# Altium footprint library electronpowered.PcbLib: 83 footprints (part 5 of 6)
Each footprint in its own frame and in the unit in brackets; x right, y up, seen from the top. Pads: shape width x height; smd on the part's side, far side on the other; paste and mask are expansions set on the pad; w line width, h text height; cw(c..) or ccw(c..) is an arc to the next point about the centre after c.
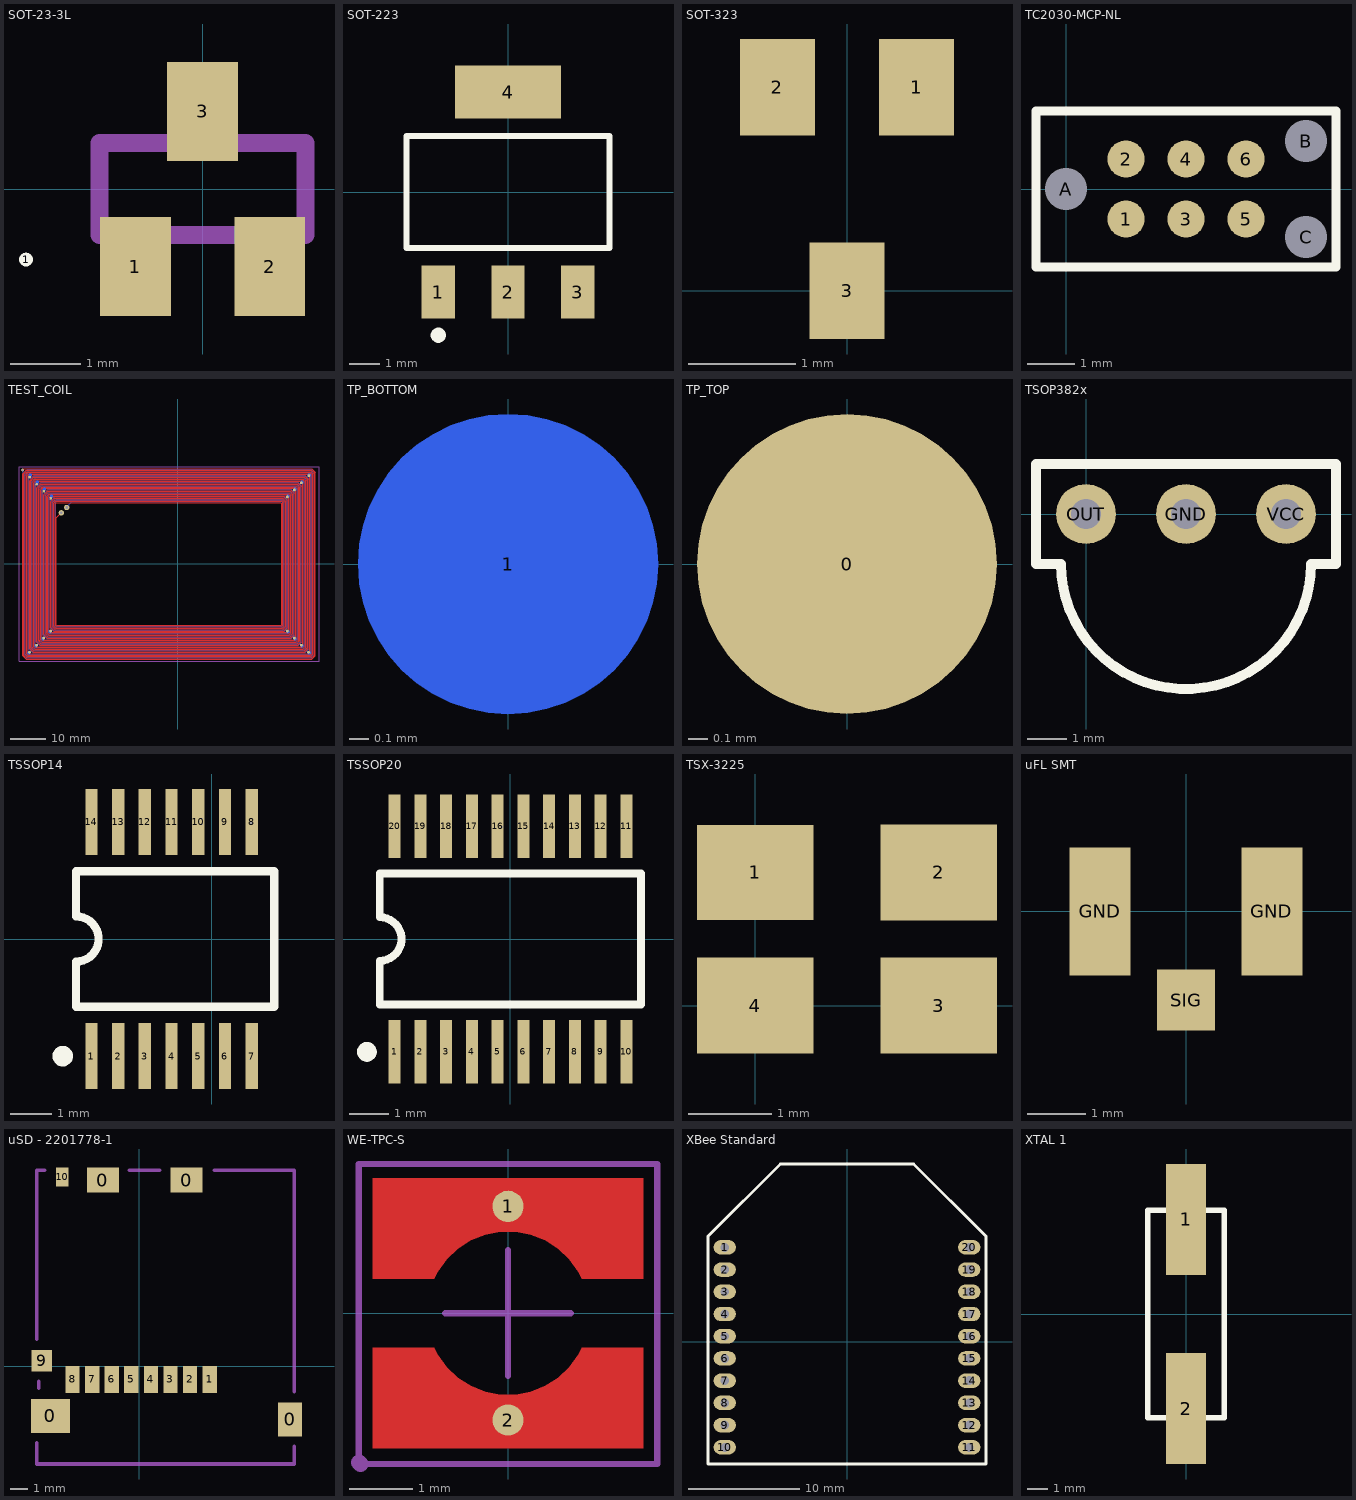
[diagram p4: the footprints below, top view; thin cyan lines are the x and y axes]

## SOT-23-3L [mm] "SOT-23-3Las used in BSS138"
height 1.3
pads (4):
  round 0.2 on Top Overlay: 1(-2.5,-1)
  rect 1x1.4 smd: 1(-0.95,-1.1) 2(0.95,-1.1) 3(0,1.1)
Top Comp Body:
  lines w0.254: -1.46,-0.65 1.46,-0.65 1.46,0.65 -1.46,0.65 -1.46,-0.65

## SOT-223 [mm] "SOT-223/SC-73; 4 Leads; Body 6.7 x 7.3 mm, inc. leads (LxW max)"
height 1.75
pads (4):
  rect 1.1x1.75 smd: 1(-2.3,-3.3) 2(0,-3.3) 3(2.3,-3.3)
  rect 3.5x1.75 smd: 4(0,3.3)
Top Overlay:
  circle w0.25: c-2.3,-4.725 r0.125
  lines w0.2: -3.35,-1.85 -3.35,1.85 3.35,1.85 3.35,-1.85 -3.35,-1.85

## SOT-323 [mm]
pads (3):
  rect 0.7x0.9 smd: 1(0.65,1.9) 2(-0.65,1.9) 3(0,0)

## TC2030-MCP-NL [mil]
pads (9):
  round 31 smd: 1(50,-25) 2(50,25) 3(100,-25) 4(100,25) 5(150,-25) 6(150,25)
  round 34 hole 35 unplated: A(0,0) B(200,40) C(200,-40)
Top Overlay:
  lines w7.87: -25,-65 -25,65 225,65 225,-65 -25,-65

## TEST_COIL [mm]
pads (34):
  round 0.8 smd far side: 0(-42.2,-25.2) 0(-41.8,25.2) 0(-40.2,-23.2) 0(-39.8,23.2) 0(-38.2,-21.2) 0(-37.8,21.2) 0(-36.2,-19.2) 0(-35.8,19.2) 0(31.2,-19.2) 0(31.2,19.2) 0(33.2,-21.2) 0(33.2,21.2) 0(35.2,-23.2) 0(35.2,23.2) 0(37.2,-25.2) 0(37.2,25.2)
  round 0.8 smd: 0(-42,-25) 0(-42,24.6) 0(-40,-23) 0(-40,22.6) 0(-38,-21) 0(-38,20.6) 0(-36,-19) 0(-36,18.6) 0(31,-19) 0(31,19) 0(33,-21) 0(33,21) 0(35,-23) 0(35,23) 0(37,-25) 0(37.1,25)
  round 1.524 hole 0.762: 1(-33,14.5) 2(-31.5,16)
via -44,26.6 diameter 0.8 hole 0.4
Top Layer:
  lines w0.2: -33,14.5 -34.4,13.1 -34.4,-17.2 -34.2,-17.4 29.2,-17.4 29.4,-17.2 29.4,-17 29.4,17.2 29.2,17.4 -34.4,17.4 -34.8,17 -34.8,-17.4 -34.4,-17.8 29.4,-17.8 29.8,-17.4 29.8,17.4 29.4,17.8 -34.6,17.8 -35.2,17.2 -35.2,-17.6 -34.6,-18.2 29.6,-18.2 30.2,-17.6 30.2,17.6 29.6,18.2 -34.8,18.2 -35.6,17.4 -35.6,-17.8 -34.8,-18.6 29.8,-18.6 30.6,-17.8 30.6,17.8 29.8,18.6 -35,18.6 -36,17.6 -36,-18 -35,-19 30,-19 31,-18 31,18 30,19 -36.2,19 -36.4,18.8 -36.4,-19.2 -36.2,-19.4 31.2,-19.4 31.4,-19.2 31.4,19.2 31.2,19.4 -36.4,19.4 -36.8,19 -36.8,-19.4 -36.4,-19.8 31.4,-19.8 31.8,-19.4 31.8,19.4 31.4,19.8 -36.6,19.8 -37.2,19.2 -37.2,-19.6 -36.6,-20.2 31.6,-20.2 32.2,-19.6 32.2,19.6 31.6,20.2 -36.8,20.2 -37.6,19.4 -37.6,-19.8 -36.8,-20.6 31.8,-20.6 32.6,-19.8 32.6,19.8 31.8,20.6 -37,20.6 -38,19.6 -38,-20 -37,-21 32,-21 33,-20 33,20 32,21 -38.2,21 -38.4,20.8 -38.4,-21.2 -38.2,-21.4 33.2,-21.4 33.4,-21.2 33.4,21.2 33.2,21.4 -38.4,21.4 -38.8,21 -38.8,-21.4 -38.4,-21.8 33.4,-21.8 33.8,-21.4 33.8,21.4 33.4,21.8 -38.6,21.8 -39.2,21.2 -39.2,-21.6 -38.6,-22.2 33.6,-22.2 34.2,-21.6 34.2,21.6 33.6,22.2 -38.8,22.2 -39.6,21.4 -39.6,-21.8 -38.8,-22.6 33.8,-22.6 34.6,-21.8 34.6,21.8 33.8,22.6 -39,22.6 -40,21.6 -40,-22 -39,-23 34,-23 35,-22 35,22 34,23 -40.2,23 -40.4,22.8 -40.4,-23.2 -40.2,-23.4 35.2,-23.4 35.4,-23.2 35.4,23.2 35.2,23.4 -40.4,23.4 -40.8,23 -40.8,-23.4 -40.4,-23.8 35.4,-23.8 35.8,-23.4 35.8,23.4 35.4,23.8 -40.6,23.8 -41.2,23.2 -41.2,-23.6 -40.6,-24.2 35.6,-24.2 36.2,-23.6 36.2,23.6 35.6,24.2 -40.8,24.2 -41.6,23.4 -41.6,-23.8 -40.8,-24.6 35.8,-24.6 36.6,-23.8 36.6,23.8 35.8,24.6 -41,24.6 -42,23.6 -42,-24 -41,-25 36,-25 37,-24 37,24 36,25 -42.2,25 -42.4,24.8 -42.4,-25.2 -42.2,-25.4 37.2,-25.4 37.4,-25.2 37.4,25.2 37.2,25.4 -42.4,25.4 -42.8,25 -42.8,-25.4 -42.4,-25.8 37.4,-25.8 37.8,-25.4 37.8,25.4 37.4,25.8 -42.6,25.8 -43.2,25.2 -43.2,-25.6 -42.6,-26.2 37.6,-26.2 38.2,-25.6 38.2,25.6 37.6,26.2 -42.8,26.2 -43,26 ; -44,26.6 -44,26.6 ; -44,26.6 -43.6,27 -43.2,27 38,27 39,26 39,-26 38,-27 -43,-27 -44,-26 -44,25.6 -43,26.6 37.8,26.6 38.6,25.8 38.6,-25.8 37.8,-26.6 -42.8,-26.6 -43.6,-25.8 -43.6,25.4 -43,26 ; -43,26 -43,26
Bottom Layer:
  lines w0.2: -44,26.6 -43.8,26.4 -43.8,-25.9 -42.9,-26.8 37.9,-26.8 38.8,-25.9 38.8,25.9 37.9,26.8 -42.5,26.8 -43.4,25.9 -43.4,-25.7 -42.7,-26.4 37.7,-26.4 38.4,-25.7 38.4,25.7 37.7,26.4 -42.3,26.4 -43,25.7 -43,-25.5 -42.5,-26 37.5,-26 38,-25.5 38,25.5 37.5,26 37.4,26 -42.1,26 -42.6,25.5 -42.6,-25.3 -42.3,-25.6 37.3,-25.6 37.6,-25.3 37.6,25.3 37.3,25.6 -41.9,25.6 -42.2,25.3 -42.2,-24.1 -41.1,-25.2 36.1,-25.2 37.2,-24.1 37.2,24.1 36.1,25.2 -40.7,25.2 -41.8,24.1 -41.8,-23.9 -40.9,-24.8 35.9,-24.8 36.8,-23.9 36.8,23.9 35.9,24.8 -40.6,24.8 -41.4,24 -41.4,-23.7 -40.7,-24.4 35.7,-24.4 36.4,-23.7 36.4,23.7 35.7,24.4 -40.3,24.4 -41,23.7 -41,-23.5 -40.5,-24 35.5,-24 36,-23.5 36,23.5 35.5,24 -40.1,24 -40.6,23.5 -40.6,-23.3 -40.3,-23.6 35.3,-23.6 35.6,-23.3 35.6,23.3 35.3,23.6 -39.9,23.6 -40.2,23.3 -40.2,-22.1 -39.1,-23.2 34.1,-23.2 35.2,-22.1 35.2,22.1 34.1,23.2 -38.7,23.2 -39.8,22.1 -39.8,-21.9 -38.9,-22.8 33.9,-22.8 34.8,-21.9 34.8,21.9 33.9,22.8 -38.5,22.8 -39.4,21.9 -39.4,-21.7 -38.7,-22.4 33.7,-22.4 34.4,-21.7 34.4,21.7 33.7,22.4 -38.3,22.4 -39,21.7 -39,-21.5 -38.5,-22 33.5,-22 34,-21.5 34,21.5 33.5,22 -38.1,22 -38.6,21.5 -38.6,-21.3 -38.3,-21.6 33.3,-21.6 33.6,-21.3 33.6,21.3 33.3,21.6 -38,21.6 ; -31.5,16.1 -30,17.6 29.3,17.6 29.6,17.3 29.6,-17.3 29.3,-17.6 -34.3,-17.6 -34.6,-17.3 -34.6,17.5 -34.1,18 29.5,18 30,17.5 30,-17.5 29.5,-18 -34.5,-18 -35,-17.5 -35,17.7 -34.3,18.4 29.7,18.4 30.4,17.7 30.4,-17.7 29.7,-18.4 -34.7,-18.4 -35.4,-17.7 -35.4,17.9 -34.5,18.8 29.9,18.8 30.8,17.9 30.8,-17.9 29.9,-18.8 -34.9,-18.8 -35.8,-17.9 -35.8,18.1 -34.7,19.2 30.1,19.2 31.2,18.1 31.2,-18.1 30.1,-19.2 -35.1,-19.2 -36.2,-18.1 -36.2,19.3 -35.9,19.6 -35.8,19.6 31.3,19.6 31.6,19.3 31.6,-19.3 31.3,-19.6 -36.3,-19.6 -36.6,-19.3 -36.6,19.5 -36.1,20 31.5,20 32,19.5 32,-19.5 31.5,-20 -36.5,-20 -37,-19.5 -37,19.7 -36.3,20.4 31.7,20.4 32.4,19.7 32.4,-19.7 31.7,-20.4 -36.7,-20.4 -37.4,-19.7 -37.4,19.9 -36.5,20.8 31.9,20.8 32.8,19.9 32.8,-19.9 31.9,-20.8 -36.9,-20.8 -37.8,-19.9 -37.8,20.1 -36.7,21.2 32.1,21.2 33.2,20.1 33.2,-20.1 32.1,-21.2 -37.1,-21.2 -38.2,-20.1 -38.2,21.4 -38,21.6 ; -38,21.6 -38,21.6
  lines w0.254: -31.5,16 -31.5,16.1
Top Dimension:
  lines w0.2: -45,-27.5 -45,27.5 40,27.5 40,-27.5 -45,-27.5

## TP_BOTTOM [mil] "Testpoint on the bottom layer"
pads (1):
  round 60 smd far side: 1(0,0)

## TP_TOP [mil] "Top layer test point"
pads (1):
  round 60 smd: 0(0,0)

## TSOP382x [mil] "Vishay Semiconductors Remote Reviever"
height 324.8
pads (3):
  round 60 hole 30: GND(100,0) OUT(0,0) VCC(200,0)
Top Overlay:
  lines w10: -50,-50 -50,50 250,50 250,-50 225,-50 cw(c100,-50) -25,-50 -50,-50

## TSSOP14 [mm] "Shrink Small Outline; 14 Leads; Body Width 4.4 mm; Pitch 0.65 mm"
height 1.1
pads (14):
  rect 0.3x1.6 smd: 1(-2.925,-2.85) 2(-2.275,-2.85) 3(-1.625,-2.85) 4(-0.975,-2.85) 5(-0.325,-2.85) 6(0.325,-2.85) 7(0.975,-2.85) 8(0.975,2.85) 9(0.325,2.85) 10(-0.325,2.85) 11(-0.975,2.85) 12(-1.625,2.85) 13(-2.275,2.85) 14(-2.925,2.85)
Top Overlay:
  circle w0.25: c-3.625,-2.85 r0.125
  lines w0.2: -3.3,-1.65 -3.3,-0.55 ccw(c-3.3,0) -3.3,0.55 -3.3,1.65 1.524,1.65 1.524,-1.65 -3.3,-1.65
3D body: height 2.65, standoff 0, extent -3.429,-1.905 1.651,1.905

## TSSOP20 [mm] "Shrink Small Outline; 20 Leads; Body Width 4.4 mm; Pitch 0.65 mm"
height 1.1
pads (20):
  rect 0.3x1.6 smd: 1(-2.925,-2.85) 2(-2.275,-2.85) 3(-1.625,-2.85) 4(-0.975,-2.85) 5(-0.325,-2.85) 6(0.325,-2.85) 7(0.975,-2.85) 8(1.625,-2.85) 9(2.275,-2.85) 10(2.925,-2.85) 11(2.925,2.85) 12(2.275,2.85) 13(1.625,2.85) 14(0.975,2.85) 15(0.325,2.85) 16(-0.325,2.85) 17(-0.975,2.85) 18(-1.625,2.85) 19(-2.275,2.85) 20(-2.925,2.85)
Top Overlay:
  circle w0.25: c-3.625,-2.85 r0.125
  lines w0.2: -3.3,-1.65 -3.3,-0.55 ccw(c-3.3,0) -3.3,0.55 -3.3,1.65 3.3,1.65 3.3,-1.65 -3.3,-1.65
3D body: height 2.65, standoff 0, extent -3.429,-2.032 3.302,1.905

## TSX-3225 [mm] "SMT Shielded Crystal"
pads (4):
  rect 1.4x1.14 smd: 1(0,1.6)
  rect 1.4x1.15 smd: 2(2.2,1.6) 3(2.2,0) 4(0,0)

## uFL SMT [mm] "Surface Mount uFL connector"
pads (3):
  rect 1.05x2.2 all layers, no hole: GND(-1.475,0) GND(1.475,0)
  rect 1x1.05 all layers, no hole: SIG(0,-1.525)

## uSD - 2201778-1 [mm] "TE CONNECTIVITY - 2201778-1 - CONNECTOR, MICROSD, PUSH PUSH"
pads (14):
  rect 2.2x1.9 smd: 0(-4.99,-2.8)
  rect 1.8x1.4 smd: 0(-2.04,10.45) 0(2.66,10.45)
  rect 1.35x1.9 smd: 0(8.475,-3)
  rect 0.8x1.5 smd: 1(3.95,-0.75) 2(2.85,-0.75) 3(1.75,-0.75) 4(0.65,-0.75) 5(-0.45,-0.75) 6(-1.55,-0.75) 7(-2.65,-0.75) 8(-3.75,-0.75)
  rect 1.16x1.2 smd: 9(-5.47,0.3)
  rect 0.7x1.05 smd: 10(-4.32,10.625)
Top Courtyard:
  lines w0.2: -5.75,-5.5 -5.75,-4.3 ; -5.75,1.5 -5.75,11 -5.3,11 ; -5.7,-5.5 8.7,-5.5 8.7,-4.5 ; -5.65,-1.25 -5.65,-0.85 ; -0.55,11 1.15,11 ; 4.2,11 8.7,11 8.7,-1.45

## WE-TPC-S [mm] "Wurth Electronics TPC power inductor size s"
height 1.65
pads (2):
  round 0.5 smd: 1(0,1.7) 2(0,-1.7)
Top Layer:
  region: 2.15,-0.55 2.15,-2.15 -2.15,-2.15 -2.15,-0.55 -1.179,-0.55 -1.177,-0.551 -1.12,-0.66 -0.976,-0.858 -0.798,-1.026 -0.591,-1.158 -0.363,-1.248 -0.123,-1.294 0.123,-1.294 0.363,-1.248 0.591,-1.158 0.798,-1.026 0.976,-0.858 1.12,-0.66 1.177,-0.551
  region: -2.15,0.55 -2.15,2.15 2.15,2.15 2.15,0.55 1.179,0.55 1.177,0.551 1.12,0.66 0.976,0.858 0.798,1.026 0.591,1.158 0.363,1.248 0.123,1.294 -0.123,1.294 -0.363,1.248 -0.591,1.158 -0.798,1.026 -0.976,0.858 -1.12,0.66 -1.177,0.551
Top Courtyard:
  lines w0.1: -2.375,-2.375 -2.375,2.375 2.375,2.375 2.375,-2.4 -2.35,-2.4 ; -1,0 1,0 ; 0,-1 0,1
  lines w0.254: -2.375,-2.375 -2.35,-2.4
3D body "WE-TPC_3816.stp": height 1.65, standoff 0, extent -1.9,-1.9 1.9,1.9

## XBee Standard [mm]
pads (20):
  oval 2x1.3 hole 0.8: 1(-11,8.5) 2(-11,6.5) 3(-11,4.5) 4(-11,2.5) 5(-11,0.5) 6(-11,-1.5) 7(-11,-3.5) 8(-11,-5.5) 9(-11,-7.5) 10(-11,-9.5) 11(11,-9.5) 12(11,-7.5) 13(11,-5.5) 14(11,-3.5) 15(11,-1.5) 16(11,0.5) 17(11,2.5) 18(11,4.5) 19(11,6.5) 20(11,8.5)
Top Overlay:
  lines w0.254: 12.5,-11 -12.5,-11 -12.5,8.5 -12.5,9.5 -6,16 6,16 12.5,9.5 ; 12.5,-10.9 12.5,9.5 ; 12.5,9.5 12.5,9.5

## XTAL 1 [mm]
pads (2):
  rect 2x5.5 smd: 1(0,4.699) 2(0,-4.699)
Top Overlay:
  lines w0.254: -1.9,-5.15 1.9,-5.15 1.9,5.15 -1.9,5.15 -1.9,-5.15